# EAGLE library part USMP-P24701 (library OLED Watch Original Library)
US Micro P24701 0.5" OLED WHITE, 72x32, COG, SPD0301
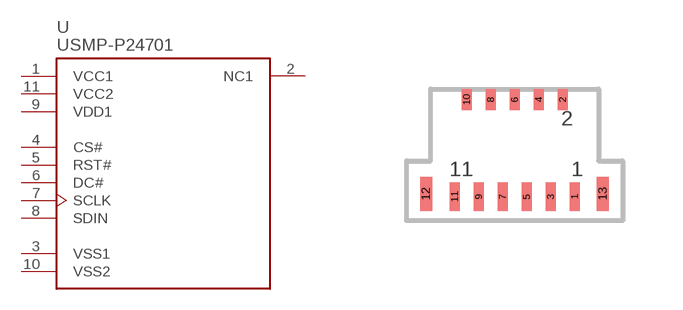
[diagram p2: symbol with the pads of USMP-P24701; footprint USMP-P24701]

Designator prefix -

## USMP-P24701  [USMP-P24701]
1  VCC1  pwr
2  NC1
3  VSS1  pwr
4  CS#
5  RST#
6  DC#
7  SCLK
8  SDIN
9  VDD1  pwr
10  VSS2  pwr
11  VCC2

## Footprint USMP-P24701 (pad centres in mm)
smd 0.25 x 0.72: 1 3,0; 3 2.4,0; 5 1.8,0; 7 1.2,0; 9 0.6,0; 11 0,0
smd 0.25 x 0.52: 2 2.7,2.43; 4 2.1,2.43; 6 1.5,2.43; 8 0.9,2.43; 10 0.3,2.43
smd 0.3 x 0.85: 12 -0.71,0.07; 13 3.71,0.07